# EAGLE library part 12F1840 (library custom)
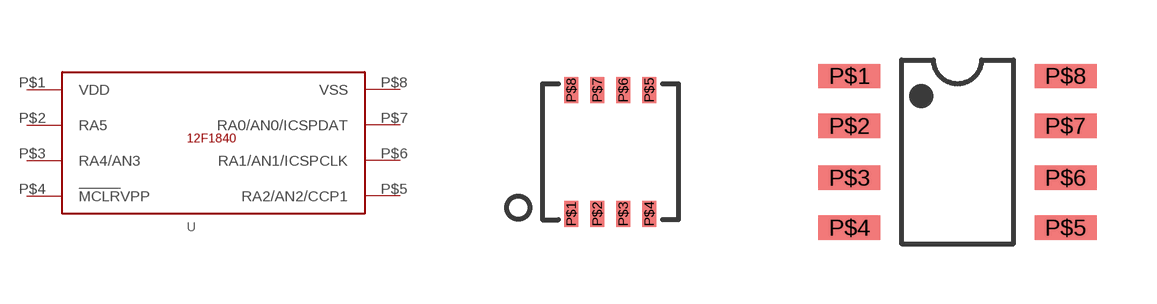
[diagram p34: symbol with the pads of DFN_08_LEAD_3X3MM; footprints DFN_08_LEAD_3X3MM, SOIC_8N]

Designator prefix -

## 12F1840  [DFN_08_LEAD_3X3MM]
P$1  VDD
P$2  RA5
P$3  RA4/AN3
P$4  !MCLR!VPP
P$5  RA2/AN2/CCP1
P$6  RA1/AN1/ICSPCLK
P$7  RA0/AN0/ICSPDAT
P$8  VSS

## 12F1840SOIC_8N  [SOIC_8N]
Pads as for DFN_08_LEAD_3X3MM

## 12F1840DIP  [12F683]
Pads as for DFN_08_LEAD_3X3MM

## Footprint DFN_08_LEAD_3X3MM (pad centres in mm)
smd 0.35 x 0.65: P$1 -0.975,-1.55; P$2 -0.325,-1.55; P$3 0.325,-1.55; P$4 0.975,-1.55; P$5 0.975,1.55; P$6 0.325,1.55; P$7 -0.325,1.55; P$8 -0.975,1.55

## Footprint SOIC_8N (pad centres in mm)
smd 1.55 x 0.6: P$1 -2.7,1.9; P$2 -2.7,0.65; P$3 -2.7,-0.65; P$4 -2.7,-1.9; P$5 2.7,-1.9; P$6 2.7,-0.65; P$7 2.7,0.65; P$8 2.7,1.9

## Footprint 12F683 (pad centres in mm)
drill 0.8 round: P$1 -3.81,-3.81
drill 0.8 square: P$2 -1.27,-3.81; P$3 1.27,-3.81; P$4 3.81,-3.81; P$5 3.81,3.81; P$6 1.27,3.81; P$7 -1.27,3.81; P$8 -3.81,3.81